# Altium schematic symbol library Seeed-Sensor.SCHLIB: 13 symbols
Pins are listed as number, name and electrical type; pins without a type are passive.

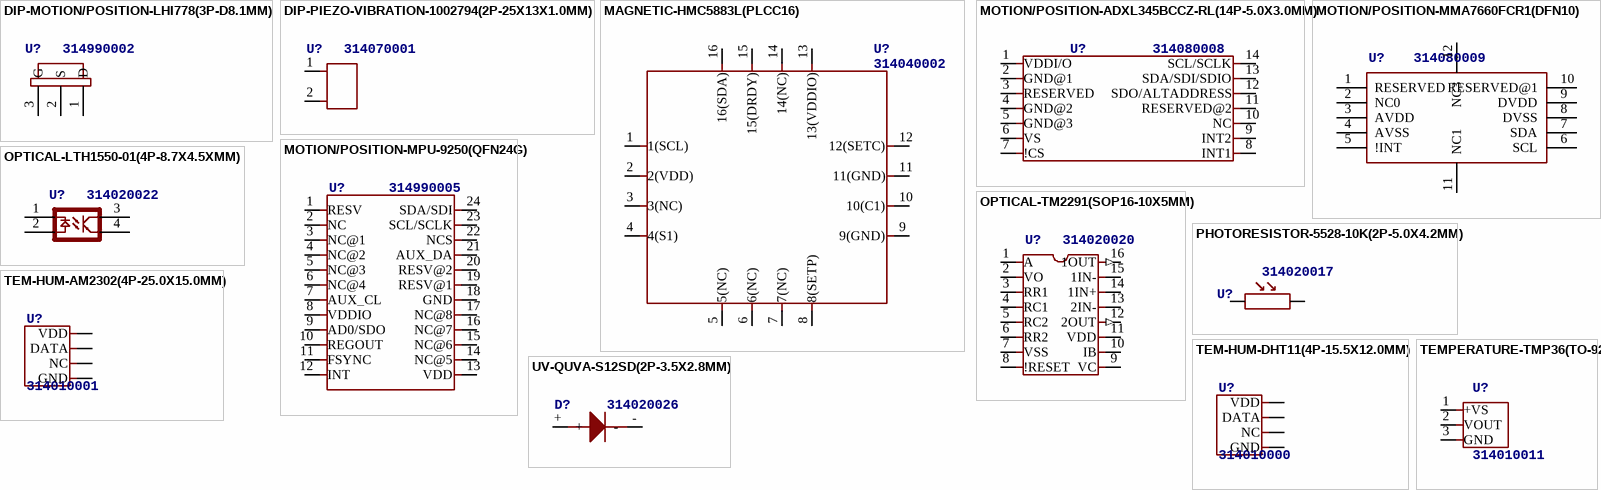
[diagram p0: symbols DIP-MOTION/POSITION-LHI778(3P-D8.1MM) to UV-QUVA-S12SD(2P-3.5X2.8MM)]

## DIP-MOTION/POSITION-LHI778(3P-D8.1MM)
designator U?, comment 314990002
MPN: LHI778
footprint SNR3-D8.1XH4.2MM
pins: 1 D, 2 S, 3 G

## DIP-PIEZO-VIBRATION-1002794(2P-25X13X1.0MM)
designator U?, comment 314070001
MPN: VIBRATION-1002794
footprint SNR2-5.1-25.0X13.0X1.0MM
pins: 1, 2

## MAGNETIC-HMC5883L(PLCC16)
designator U?, comment 314040002
MPN: HMC5883L
footprint PLCC16-0.5-3X3MM
pins: 1 1(SCL), 2 2(VDD) (oe), 3 3(NC), 4 4(S1), 5 5(NC), 6 6(NC), 7 7(NC), 8 8(SETP), 9 9(GND) (power), 10 10(C1), 11 11(GND) (oe), 12 12(SETC), 13 13(VDDIO) (oe), 14 14(NC), 15 15(DRDY), 16 16(SDA)

## MOTION/POSITION-ADXL345BCCZ-RL(14P-5.0X3.0MM)
designator U?, comment 314080008
MPN: ADXL345BCCZ-RL
footprint LGA14-0.8-5.0X3.0MM
pins: 1 VDDI/O (oe), 2 GND@1 (oe), 3 RESERVED, 4 GND@2 (oe), 5 GND@3 (oe), 6 VS, 7 !CS, 8 INT1, 9 INT2, 10 NC, 11 RESERVED@2, 12 SDO/ALTADDRESS, 13 SDA/SDI/SDIO, 14 SCL/SCLK

## MOTION/POSITION-MMA7660FCR1(DFN10)
designator U?, comment 314080009
MPN: MMA7660FCR1
footprint DFN10-0.5-3.0X3.0MM
pins: 1 RESERVED, 2 NC0, 3 AVDD (power), 4 AVSS (power), 5 !INT, 6 SCL, 7 SDA, 8 DVSS, 9 DVDD, 10 RESERVED@1, 11 NC1, 12 NC3

## MOTION/POSITION-MPU-9250(QFN24G)
designator U?, comment 314990005
footprint QFN24G-0.4-3X3MM
pins: 1 RESV, 2 NC, 3 NC@1, 4 NC@2, 5 NC@3, 6 NC@4, 7 AUX_CL, 8 VDDIO, 9 AD0/SDO, 10 REGOUT, 11 FSYNC, 12 INT, 13 VDD, 14 NC@5, 15 NC@6, 16 NC@7, 17 NC@8, 18 GND, 19 RESV@1, 20 RESV@2, 21 AUX_DA, 22 NCS, 23 SCL/SCLK, 24 SDA/SDI

## OPTICAL-LTH1550-01(4P-8.7X4.5XMM)
designator U?, comment 314020022
MPN: LTH1550-01
footprint SNR4-2.54-8.7X4.5X5.8MM
pins: 1, 2, 3, 4

## OPTICAL-TM2291(SOP16-10X5MM)
designator U?, comment 314020020
MPN: TM2291
footprint SOP16-1.27-10.0X5.0MM
pins: 1 A, 2 VO, 3 RR1, 4 RC1, 5 RC2, 6 RR2, 7 VSS (oe), 8 !RESET, 9 VC, 10 IB, 11 VDD (oe), 12 2OUT (out), 13 2IN-, 14 1IN+, 15 1IN-, 16 1OUT (out)

## PHOTORESISTOR-5528-10K(2P-5.0X4.2MM)
designator U?, comment 314020017
MPN: PHOTORESISTOR-5528-10K
footprint SNR2-3.0
pins: 1 P$1, 2 P$2

## TEM-HUM-AM2302(4P-25.0X15.0MM)
designator U?, comment 314010001
MPN: AM2302
footprint SNR4-2.54-25.0X15.0X7.0MM
pins: P$1 VDD (oe), P$2 DATA, P$3 NC, P$4 GND (oe)

## TEM-HUM-DHT11(4P-15.5X12.0MM)
designator U?, comment 314010000
MPN: DHT11
footprint SNR4-2.54-15.5X12.0X5.5MM
pins: 1 VDD (oe), 2 DATA, 3 NC, 4 GND (oe)

## TEMPERATURE-TMP36(TO-92)
designator U?, comment 314010011
MPN: TEM36
footprint TO-92-3
pins: 1 +VS, 2 VOUT, 3 GND

## UV-QUVA-S12SD(2P-3.5X2.8MM)
designator D?, comment 314020026
MPN: UV-QUVA-S12SD
footprint SMD3528
pins: +, -